# EAGLE library part WE-RJ45_7499210001A (library WE-RJ45_LAN)
WE-RJ45 LAN Transformer Characteristics RJ45 Connector with integrated transformer / common mode choke Power over Ethernet up to 50 Watt and speeds up to 10 Gbit/s Available in SMD, THT and THT with USB Compliant with standards: IEEE 802.3u, IEEE 802.3ab, IEEE 802.3af, IEEE 802.3at, IEEE 802.3an and upcoming IEE 802.3bt Applications Suitable for industrial temperatures from –40 °C up to +85 °C Compatible to Industrial Ethernet systems like EtherCAT or Profinet Compliant with most IC’s for Ethernet applications such as Microchip, Texas Instruments, Broadcom, Linear Technology Hubs, Routers, Switches, IP cameras, IoT applications <https://www.we-online.com/components/media/o35731v209%20Family-WE-RJ45LAN-7499xxxxxx.jpg> Details see: www.we-online.com/components/products/WE-LAN-RJ45 <www.we-online.com/catalog/WE-LAN-RJ45/?utm_source=eagle_model&utm_medium=description_link&utm_campaign=eisos_eagle> Updated by Ella Wu 2023-08-16 2023 (C) Wurth Elektronik
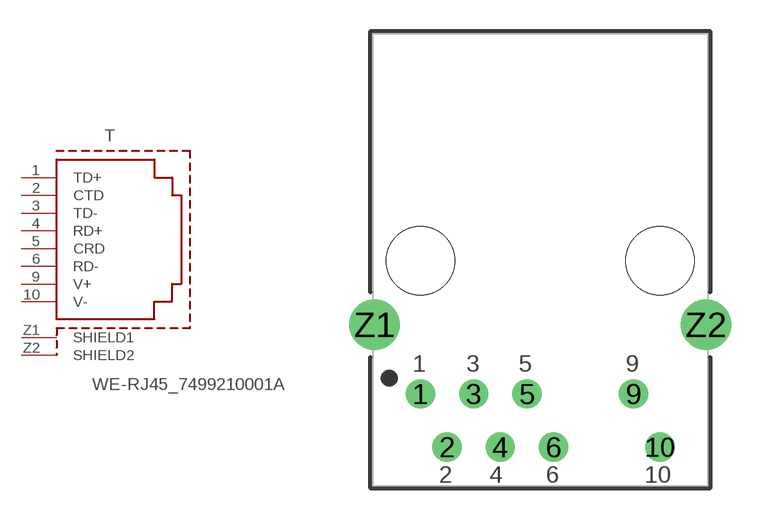
[diagram p16: symbol with the pads of 7499210001A; footprint 7499210001A]

Designator prefix T

## WE-RJ45_7499210001A (DATA-RATE: 10/100BASE-T; DATASHEET-URL: https://www.we-online.com/redexpert/spec/7499210001A?ae; IMPROVED-CMRR: No; LED: No LED; MOUNT: THT; OPERATING-TEMPERATURE: -40 °C up to +85 °C; PART-NUMBER: 7499210001A; PHY-CHIP-MODE: current & voltage; POE: PoE; PORTS: 1; SHIELD-TABS: No; TAB: Up; USB: No; VALUE: 7499210001A)  [7499210001A]
1  TD+  pas
2  CTD  pas
3  TD-  pas
4  RD+  pas
5  CRD  pas
6  RD-  pas
9  V+  pas
10  V-  pas
Z1  SHIELD1  pas
Z2  SHIELD2  pas

## Footprint 7499210001A (pad centres in mm)
WE-RJ45 LAN Transformer 10/100 Base-T
drill 0.89: 1 -5.715,-6.35; 2 -4.445,-8.89; 3 -3.175,-6.35; 4 -1.905,-8.89; 5 -0.635,-6.35; 6 0.635,-8.89; 9 4.445,-6.35; 10 5.715,-8.89
drill 1.6: Z1 -7.9,-3.05; Z2 7.9,-3.05
hole 3.25 at 5.715,0
hole 3.25 at -5.715,0